# Altium schematic symbol library N-CH FETs.SchLib: 25 symbols
Pins are listed as number, name and electrical type; pins without a type are passive.

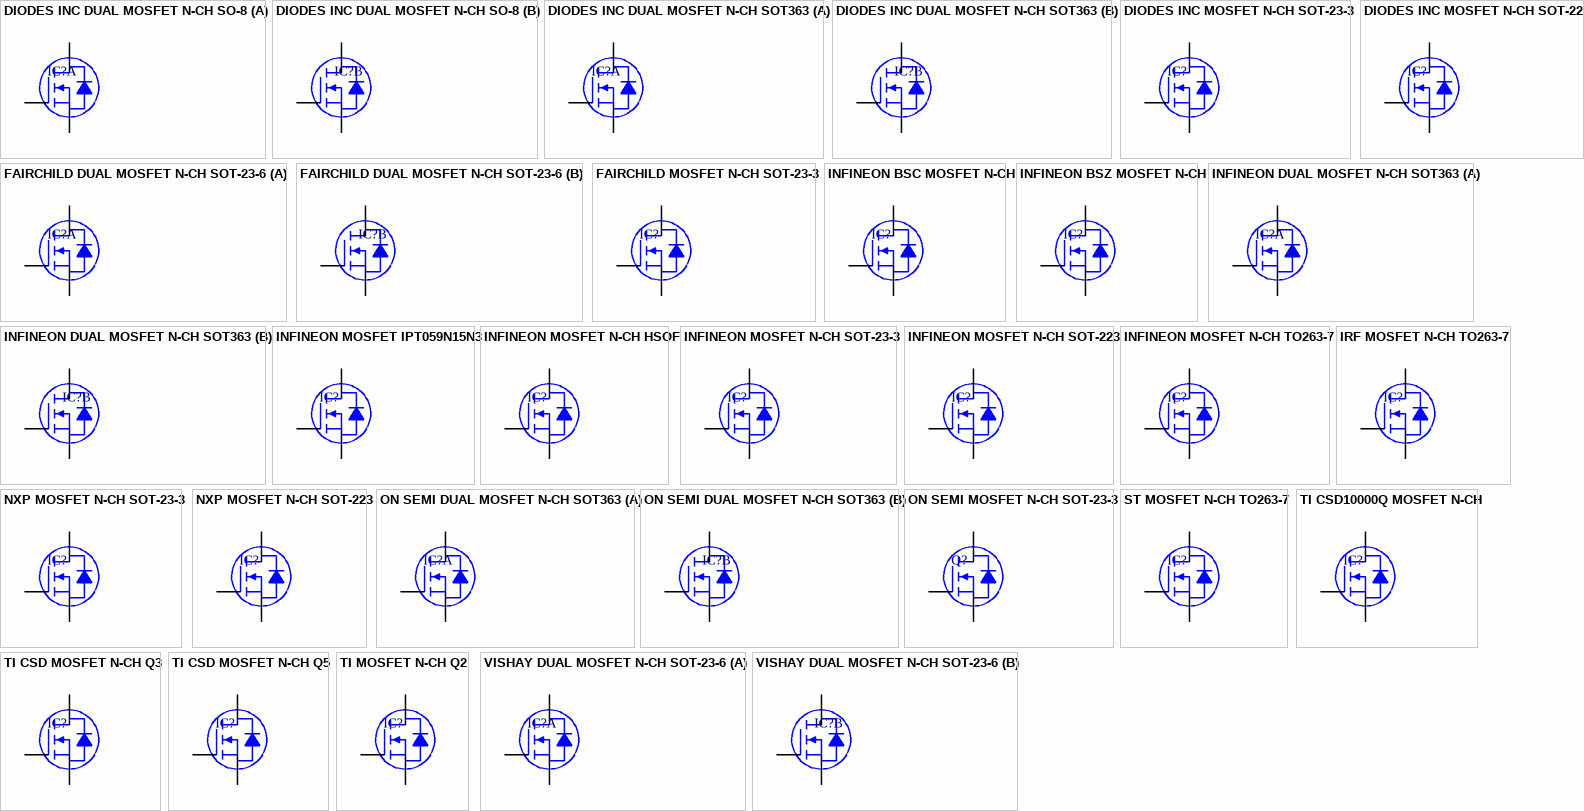
[diagram p0: symbols DIODES INC DUAL MOSFET N-CH SO-8 to VISHAY DUAL MOSFET N-CH SOT-23-6]

## DIODES INC DUAL MOSFET N-CH SO-8
designator IC?
part A pins: 1 S1, 2 G1, 7 D1, 8 D1
part B pins: 3 S2, 4 G2, 5 D2, 6 D2

## DIODES INC DUAL MOSFET N-CH SOT363
designator IC?
part A pins: 3 D1, 4 S1, 5 G1
part B pins: 1 S2, 2 G2, 6 D2

## DIODES INC MOSFET N-CH SOT-23-3
designator IC?
pins: 1 G, 2 D, 3 S

## DIODES INC MOSFET N-CH SOT-223
designator IC?
pins: 1 G, 2 D, 3 S, 4 D

## FAIRCHILD DUAL MOSFET N-CH SOT-23-6
designator IC?
part A pins: 1 G1, 5 S1, 6 D1
part B pins: 2 S2, 3 G2, 4 D2

## FAIRCHILD MOSFET N-CH SOT-23-3
designator IC?
pins: 1 G, 2 D, 3 S

## INFINEON BSC MOSFET N-CH
designator IC?
pins: 1 S, 2 S, 3 S, 4 G, 5 D, 6 D, 7 D, 8 D

## INFINEON BSZ MOSFET N-CH
designator IC?
pins: 1 S, 2 S, 3 S, 4 G, 5 D, 6 D, 7 D, 8 D

## INFINEON DUAL MOSFET N-CH SOT363
designator IC?
part A pins: 1 S1, 2 G1, 6 D1
part B pins: 3 D2, 4 S2, 5 G2

## INFINEON MOSFET IPT059N15N3
designator IC?
pins: D, G, S

## INFINEON MOSFET N-CH HSOF
designator IC?
pins: 1 G, 2 S, 3 S, 4 S, 5 S, 6 S, 7 S, 8 S, 9 D

## INFINEON MOSFET N-CH SOT-23-3
designator IC?
pins: 1 G, 2 D, 3 S

## INFINEON MOSFET N-CH SOT-223
designator IC?
pins: 1 G, 2 D, 3 S, 4 D

## INFINEON MOSFET N-CH TO263-7
designator IC?
pins: 1 G, 2 S, 3 S, 5 S, 6 S, 7 S, 8 D

## IRF MOSFET N-CH TO263-7
designator IC?
pins: 1 G, 2 S, 3 S, 5 S, 6 S, 7 S, 8 D

## NXP MOSFET N-CH SOT-23-3
designator IC?
pins: 1 G, 2 D, 3 S

## NXP MOSFET N-CH SOT-223
designator IC?
pins: 1 G, 2 D, 3 S, 4 D

## ON SEMI DUAL MOSFET N-CH SOT363
designator IC?
part A pins: 1 S1, 2 G1, 6 D1
part B pins: 3 D2, 4 S2, 5 G2

## ON SEMI MOSFET N-CH SOT-23-3
designator Q?
Supplier 1: Digi-Key; Supplier Part Number 1: BSS138CT-ND
footprint ON SEMI SOT-23-3 (SOT23, 3-Leads, Body 2.90x2.40mm, Pitch 0.95mm, IPC Medium Density)
pins: 1 G, 2 D, 3 S

## ST MOSFET N-CH TO263-7
designator IC?
pins: 1 G, 2 S, 3 S, 5 S, 6 S, 7 S, 8 D

## TI CSD10000Q MOSFET N-CH
designator IC?
pins: 1 S, 2 S, 3 S, 4 G, 5 D, 6 D, 7 D, 8 D

## TI CSD MOSFET N-CH Q3
designator IC?
pins: 1 S, 2 S, 3 S, 4 G, 5 D, 6 D, 7 D, 8 D

## TI CSD MOSFET N-CH Q5
designator IC?
pins: 1 S, 2 S, 3 S, 4 G, 5 D, 6 D, 7 D, 8 D

## TI MOSFET N-CH Q2
designator IC?
pins: 1 D, 1 5, 1 6, 1 8, 2 D, 3 G, 4 S, 7 S

## VISHAY DUAL MOSFET N-CH SOT-23-6
designator IC?
part A pins: 1 G1, 5 S1, 6 D1
part B pins: 2 S2, 3 G2, 4 D2